# EAGLE library part ALD212900SAL (library APU_PayloadBoard_Library)
MOSFET Dual N-Ch EPAD FET Array VGS=0.0V Source: Datasheet <http://www.aldinc.com/pdf/ALD212900.pdf>
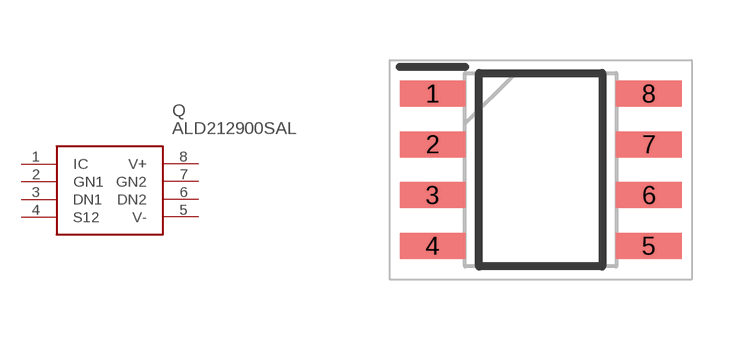
[diagram p6: symbol with the pads of SOIC127P600X175-8N; footprint SOIC127P600X175-8N]

Designator prefix Q

## ALD212900SAL (DESCRIPTION: MOSFET Dual N-Ch EPAD FET Array VGS=0.0V; HEIGHT: 1.75mm; MANUFACTURER_NAME: Advanced Linear Devices Inc.; MANUFACTURER_PART_NUMBER: ALD212900SAL; MOUSER_PART_NUMBER: 585-ALD212900SAL; MOUSER_PRICE-STOCK: https://www.mouser.co.uk/ProductDetail/Advanced-Linear-Devices/ALD212900SAL?qs=G6BL8fP%252BKLQVVQle5Zd0tg%3D%3D)  [SOIC127P600X175-8N]
1  IC
2  GN1
3  DN1
4  S12
5  V-
6  DN2
7  GN2
8  V+

## Footprint SOIC127P600X175-8N (pad centres in mm)
8 Pin Plastic SOIC
smd 1.638 x 0.65: 1 -2.706,1.905; 2 -2.706,0.635; 3 -2.706,-0.635; 4 -2.706,-1.905; 5 2.706,-1.905; 6 2.706,-0.635; 7 2.706,0.635; 8 2.706,1.905